# EAGLE library part AP7312-1833W6-7 (library AP7312-1833W6-7)
LDO,Regulator,Pos,reg,3.3V,0.15A,SOT26 DiodesZetex AP7312-1833W6-7, Dual LDO Voltage Regulator, 150mA, 1.8 V, 3.3 V /-2%, 6-Pin SOT-26 Source: Datasheet <https://www.mouser.se/datasheet/2/115/DIODS13520_1-2512524.pdf>
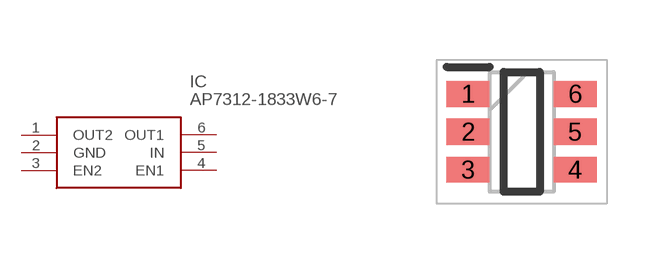
[diagram p0: symbol with the pads of SOP95P285X145-6N; footprint SOP95P285X145-6N]

Designator prefix IC

## AP7312-1833W6-7 (Arrow_Part_Number: AP7312-1833W6-7; Arrow_Price-Stock: https://www.arrow.com/en/products/ap7312-1833w6-7/diodes-incorporated?utm_currency=USD&region=nac; Description: LDO,Regulator,Pos,reg,3.3V,0.15A,SOT26 DiodesZetex AP7312-1833W6-7, Dual LDO Voltage Regulator, 150mA, 1.8 V, 3.3 V /-2%, 6-Pin SOT-26; Height: 1.45mm; Manufacturer_Name: Diodes Incorporated; Manufacturer_Part_Number: AP7312-1833W6-7; Mouser_Part_Number: 621-AP7312-1833W6-7; Mouser_Price-Stock: https://www.mouser.co.uk/ProductDetail/Diodes-Incorporated/AP7312-1833W6-7?qs=gfe7vQ8txpU5mQKCTYslow%3D%3D)  [SOP95P285X145-6N]
1  OUT2
2  GND
3  EN2
4  EN1
5  IN
6  OUT1

## Footprint SOP95P285X145-6N (pad centres in mm)
SOT-26sss
smd 1.075 x 0.65: 1 -1.338,0.95; 2 -1.338,0; 3 -1.338,-0.95; 4 1.338,-0.95; 5 1.338,0; 6 1.338,0.95